# Altium footprint library Varistors.PcbLib: 1 footprints
Each footprint in its own frame and in the unit in brackets; x right, y up, seen from the top. Pads: shape width x height; smd on the part's side, far side on the other; paste and mask are expansions set on the pad; w line width, h text height; cw(c..) or ccw(c..) is an arc to the next point about the centre after c.
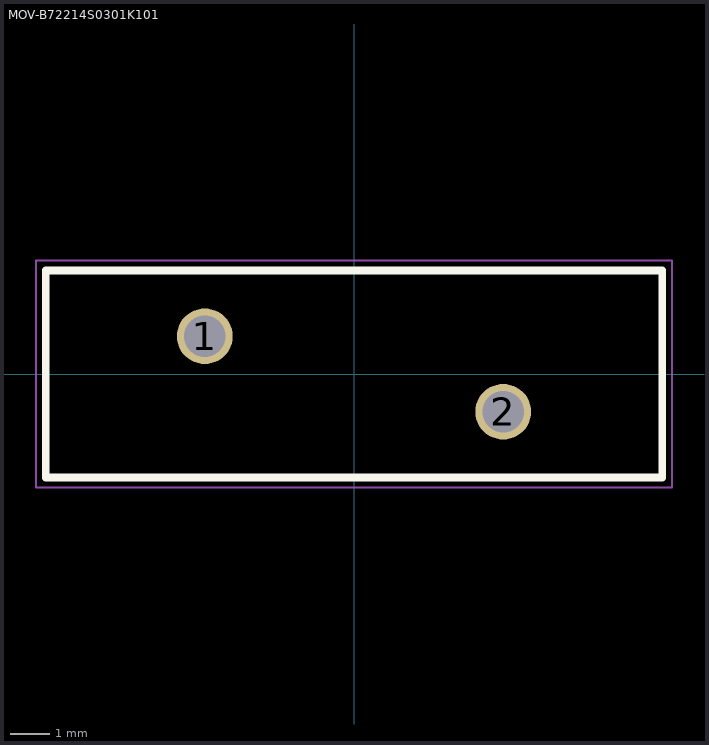
[diagram p0: the footprint, top view; thin cyan lines are the x and y axes]

## MOV-B72214S0301K101 [mm]
pads (2):
  round 1.4 hole 1.05: 1(-3.75,0.95) 2(3.75,-0.95)
Top Overlay:
  lines w0.2: -7.75,-2.6 7.75,-2.6 7.75,2.6 -7.75,2.6 -7.75,-2.6
Mechanical 13:
  lines w0.127: -7.75,-2.6 -7.75,2.6 7.75,2.6 7.75,-2.6 -7.75,-2.6
Mechanical 15:
  lines w0.05: -8,-2.85 -8,2.85 8,2.85 8,-2.85 -8,-2.85
3D body "B72214S0301K101.step": height 20.73, standoff -22.75, extent -7.75,-2.7 7.75,2.7